# EAGLE library part DF13-5 (library df13)
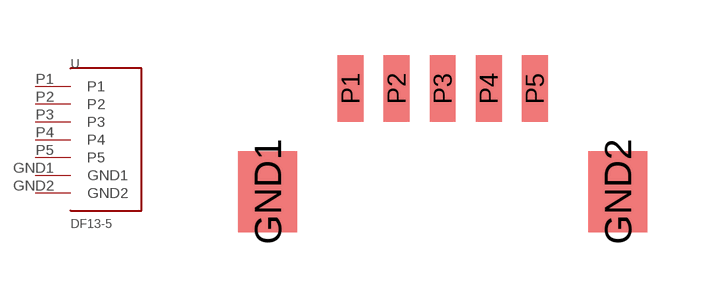
[diagram p1: symbol with the pads of DF13-5; footprint DF13-5]

Designator prefix -

## DF13-5  [DF13-5]
GND1  GND1  pwr
GND2  GND2  pwr
P1  P1
P2  P2
P3  P3
P4  P4
P5  P5

## Footprint DF13-5 (pad centres in mm)
smd 1.6 x 2.2: GND1 -4.75,0; GND2 4.75,0
smd 0.7 x 1.8: P1 -2.5,2.8; P2 -1.25,2.8; P3 0,2.8; P4 1.25,2.8; P5 2.5,2.8